# Altium schematic symbol library IPM_VFD.SchLib: 41 symbols
Pins are listed as number, name and electrical type; pins without a type are passive.

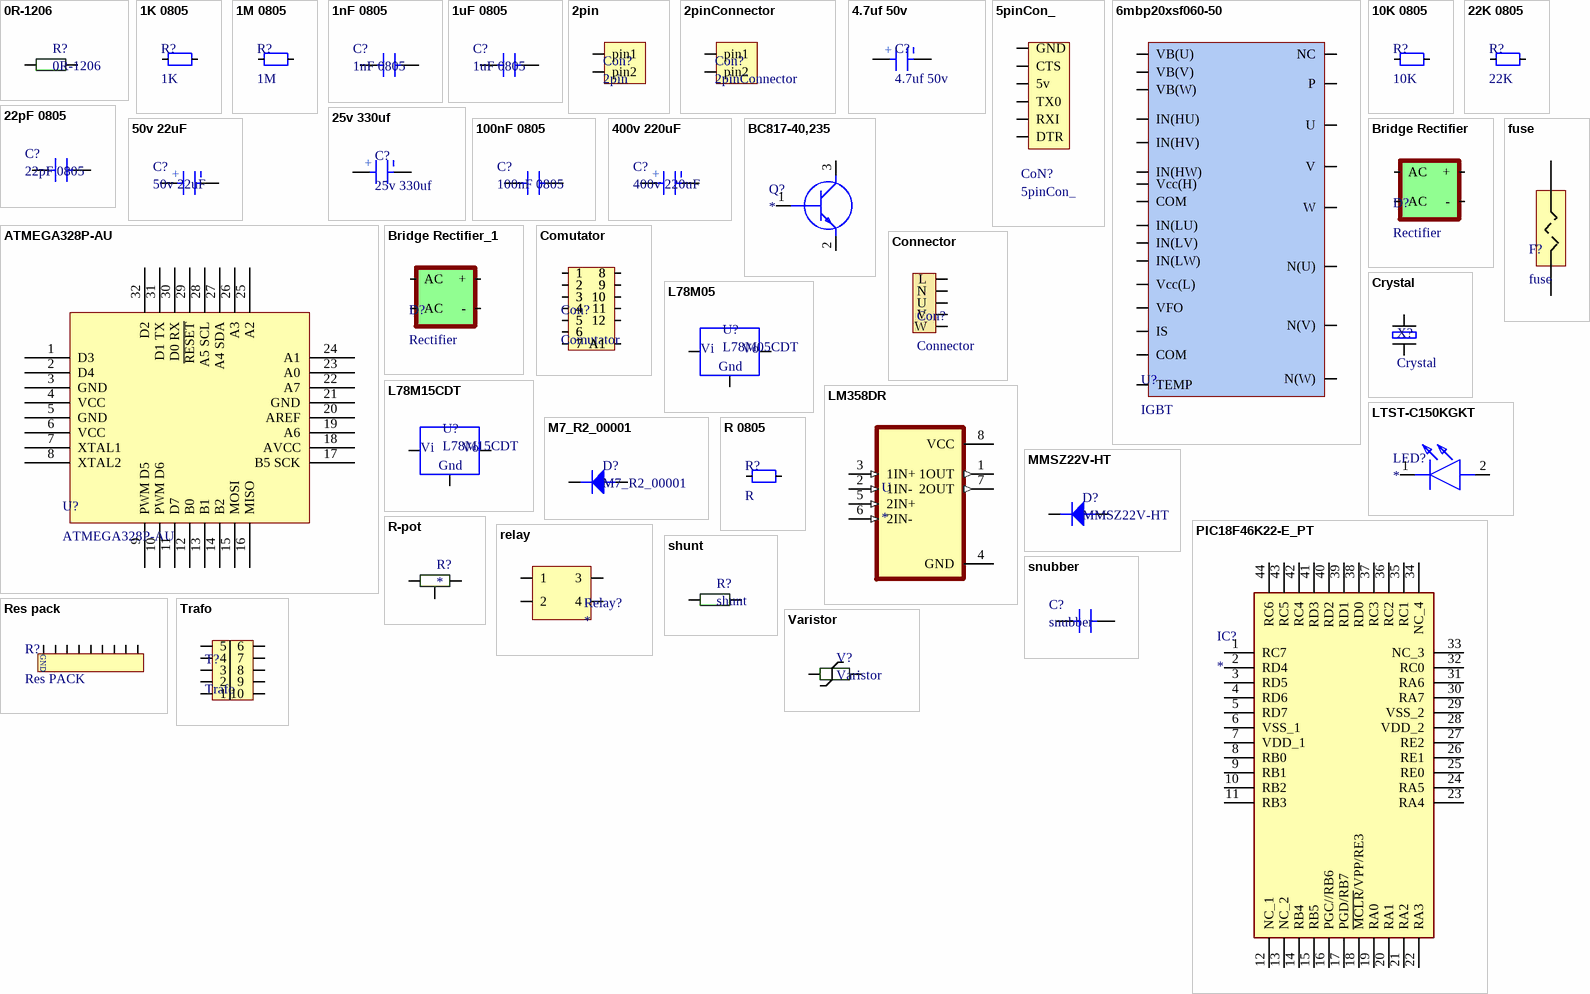
[diagram p0: symbols 0R-1206 to Varistor]

## 0R-1206
designator R?
Res1206
footprint R-1206
pins: 1, 2

## 1K 0805
designator R?, comment 1K
footprint R-0805R (resistor 0805 reflow soldering)
pins: 1, 2

## 1M 0805
designator R?, comment 1M
footprint R-0805R (resistor 0805 reflow soldering)
pins: 1, 2

## 1nF 0805
designator C?
Manufacturer: Nichicon; Manufacturer Part Number: LKS1J472MESZ; Voltage Rating: 63V; Tolerance: 20%; Ripple Current: 3A; Life (Hours): 1000Hour; Supplier 1: Mouser; RoHS: Yes; Mount: Through Hole; Case/Package: Radial; Min Operating Temperature: -40°C; Max Operating Temperature: 85°C; Package Quantity: 250; Packaging: Bulk; Voltage Rating (DC): 63V; Termination: Snap in; Diameter: 22mm; Length: 45mm; Lead Pitch: 0.394inch; Height - Seated (Max): 1.772inch; Supplier Part Number 1: 647-LKS1J472MESZ; ComponentLink1Description: Link; ComponentLink1URL: https://ozdisan.com/passive-components/capacitors/smt-smd-and-mlcc-capacitors/CL21B102KBANNNC
footprint C-0805R (capacitor 0805 reflow soldering)
pins: 1, 2

## 1uF 0805
designator C?
Manufacturer: Nichicon; Manufacturer Part Number: LKS1J472MESZ; Voltage Rating: 63V; Tolerance: 20%; Ripple Current: 3A; Life (Hours): 1000Hour; Supplier 1: Mouser; RoHS: Yes; Mount: Through Hole; Case/Package: Radial; Min Operating Temperature: -40°C; Max Operating Temperature: 85°C; Package Quantity: 250; Packaging: Bulk; Voltage Rating (DC): 63V; Termination: Snap in; Diameter: 22mm; Length: 45mm; Lead Pitch: 0.394inch; Height - Seated (Max): 1.772inch; Supplier Part Number 1: 647-LKS1J472MESZ
footprint C-0805R (capacitor 0805 reflow soldering)
pins: 1, 2

## 2pin
designator Con?
footprint Contactor
pins: 1 pin1, 2 pin2

## 2pinConnector
designator Con?
footprint 2pinCon
pins: 1 pin1, 2 pin2

## 4.7uf 50v
designator C?
footprint 4x5.3 cap
pins: 1, 2
text: +

## 5pinCon_
designator CoN?
footprint 5pinCon
pins: 1 DTR, 2 RXI, 3 TX0, 4 5v, 5 CTS, 6 GND

## 6mbp20xsf060-50
designator U?, comment IGBT
footprint 6MBP20XSF06050P
pins: 3 VB(U), 5 VB(V), 7 VB(W), 9 IN(HU), 10 IN(HV), 11 IN(HW), 12 Vcc(H), 13 COM, 14 IN(LU), 15 IN(LV), 16 IN(LW), 17 Vcc(L), 18 VFO, 19 IS, 20 COM, 21 TEMP, 22 N(W), 23 N(V), 24 N(U), 26 W, 28 V, 30 U, 32 P, 36 NC

## 10K 0805
designator R?, comment 10K
footprint R-0805R (resistor 0805 reflow soldering)
pins: 1, 2

## 22K 0805
designator R?, comment 22K
footprint R-0805R (resistor 0805 reflow soldering)
pins: 1, 2

## 22pF 0805
designator C?
Manufacturer: Nichicon; Manufacturer Part Number: LKS1J472MESZ; Voltage Rating: 63V; Tolerance: 20%; Ripple Current: 3A; Life (Hours): 1000Hour; Supplier 1: Mouser; RoHS: Yes; Mount: Through Hole; Case/Package: Radial; Min Operating Temperature: -40°C; Max Operating Temperature: 85°C; Package Quantity: 250; Packaging: Bulk; Voltage Rating (DC): 63V; Termination: Snap in; Diameter: 22mm; Length: 45mm; Lead Pitch: 0.394inch; Height - Seated (Max): 1.772inch; Supplier Part Number 1: 647-LKS1J472MESZ; ComponentLink1Description: Link; ComponentLink1URL: https://ozdisan.com/passive-components/capacitors/smt-smd-and-mlcc-capacitors/CL21C220JCANNNC
footprint C-0805R (capacitor 0805 reflow soldering)
pins: 1, 2

## 25v 330uf
designator C?
ComponentLink1Description: Link; ComponentLink1URL: https://ozdisan.com/passive-components/capacitors/aluminum-capacitors/BXJ25VC330MJ10TP
footprint 10*10 capacitor
pins: 1, 2
text: +

## 50v 22uF
designator C?
Manufacturer: Nichicon; Manufacturer Part Number: LKS1J472MESZ; Capacitance: 4.7mF; Voltage Rating: 63V; Tolerance: 20%; Ripple Current: 3A; Life (Hours): 1000Hour; Supplier 1: Mouser; RoHS: Yes; Mount: Through Hole; Case/Package: Radial; Min Operating Temperature: -40°C; Max Operating Temperature: 85°C; Package Quantity: 250; Packaging: Bulk; Voltage Rating (DC): 63V; Termination: Snap in; Diameter: 22mm; Length: 45mm; Lead Pitch: 0.394inch; Height - Seated (Max): 1.772inch; Supplier Part Number 1: 647-LKS1J472MESZ; ComponentLink3Description: Link; ComponentLink3URL: https://ozdisan.com/passive-components/capacitors/aluminum-capacitors/MRW-050V220ME057-TR
footprint 50v 22uf (Aluminum Electrolytic Capacitor, Body 6.70x6.70x6.30mm, IPC Low Density)
pins: 1, 2
text: +

## 100nF 0805
designator C?
Manufacturer: Nichicon; Manufacturer Part Number: LKS1J472MESZ; Voltage Rating: 63V; Tolerance: 20%; Ripple Current: 3A; Life (Hours): 1000Hour; Supplier 1: Mouser; RoHS: Yes; Mount: Through Hole; Case/Package: Radial; Min Operating Temperature: -40°C; Max Operating Temperature: 85°C; Package Quantity: 250; Packaging: Bulk; Voltage Rating (DC): 63V; Termination: Snap in; Diameter: 22mm; Length: 45mm; Lead Pitch: 0.394inch; Height - Seated (Max): 1.772inch; Supplier Part Number 1: 647-LKS1J472MESZ; ComponentLink2Description: Link; ComponentLink2URL: https://ozdisan.com/Product/Detail/342152/CL21F104ZBANNNC
footprint C-0805R (capacitor 0805 reflow soldering)
pins: 1, 2

## 400v 220uF
designator C?
Manufacturer: Nichicon; Manufacturer Part Number: LKS1J472MESZ; Capacitance: 4.7mF; Voltage Rating: 63V; Tolerance: 20%; Ripple Current: 3A; Life (Hours): 1000Hour; Supplier 1: Mouser; RoHS: Yes; Mount: Through Hole; Case/Package: Radial; Min Operating Temperature: -40°C; Max Operating Temperature: 85°C; Package Quantity: 250; Packaging: Bulk; Voltage Rating (DC): 63V; Termination: Snap in; Diameter: 22mm; Length: 45mm; Lead Pitch: 0.394inch; Height - Seated (Max): 1.772inch; Supplier Part Number 1: 647-LKS1J472MESZ; ComponentLink2Description: https://www.ozdisan.com/pasif-komponentler/kondansatorler/aluminyum-kondansatorler/PKL5-063V472MM450; ComponentLink2URL: https://www.ozdisan.com/pasif-komponentler/kondansatorler/aluminyum-kondansatorler/PKL5-063V472MM450
footprint 400 220Uf
pins: 1, 2
text: +

## ATMEGA328P-AU
designator U?
Microchip Technology ATMEGA328P-AN, 8bit AVR Microcontroller, 20MHz, 32 kB Flash, 32-Pin TQFP
footprint TQFP80P900X900X120-32N (TQFP, 32-Leads, Body 7.00x7.00mm, Pitch 0.80mm, IPC Medium Density)
pins: 1 D3, 2 D4, 3 GND, 4 VCC, 5 GND, 6 VCC, 7 XTAL1, 8 XTAL2, 9 PWM D5, 10 PWM D6, 11 D7, 12 B0, 13 B1, 14 B2, 15 MOSI, 16 MISO, 17 B5 SCK, 18 AVCC, 19 A6, 20 AREF, 21 GND, 22 A7, 23 A0, 24 A1, 25 A2, 26 A3, 27 A4 SDA, 28 A5 SCL, 29 ~{RESET}, 30 D0 RX, 31 D1 TX, 32 D2

## BC817-40,235
designator Q?
Transistor BJT NPN; Manufacturer_Name: Nexperia; Manufacturer_Part_Number: BC817-40,235; Datasheet Link: http://assets.nexperia.com/documents/data-sheet/BC817_BC817W_BC337.pdf; Height: 1.1mm; Mouser Part Number: 771-BC817-40235; Mouser Price/Stock: https://www.mouser.com/Search/Refine.aspx?Keyword=771-BC817-40235; RS Part Number: 1707957; RS Price/Stock: http://uk.rs-online.com/web/p/products/1707957
footprint SOT95P230X110-3N
pins: 1 B, 2 E, 3 C

## Bridge Rectifier
designator D?, comment Rectifier
footprint Bridge Rectifier
pins: 1 AC, 2 +, 3 -, 4 AC

## Bridge Rectifier_1
designator D?, comment Rectifier
ComponentLink1Description: Link; ComponentLink1URL: https://ozdisan.com/power-semiconductors/diodes-diode-modules-and-rectifiers/bridge-diodes/DF10S-HT
footprint bridge
pins: 1 +, 2 -, 3 AC, 4 AC

## Comutator
designator Con?
footprint comutator
pins: 1, 1, 2, 2, 3, 3, 4, 4, 5, 5, 6, 6, 7, 7, 8, 8, 9, 9, 10, 10, 11, 11, 12, 12, A1, A1

## Connector
designator Con?
footprint Connector
pins: 1 L, 2 N, 3 U, 4 V, 5 W

## Crystal
designator X?
AS49SD-16M-FC160F3-TR
footprint crystal
pins: 1, 2

## fuse
designator F?
footprint fuse holder
pins: 1, 2

## L78M05
designator U?, comment L78M05CDT
Manufacturer: STMicroelectronics; Manufacturer Part Number: L78M15CDT; Max Output Current: 500mA; Output Voltage: 15V; Number of Outputs: 1; Max Input Voltage: 35V; Polarity: Positive; Quiescent Current: 6mA; Output Type: Fixed; Dropout Voltage: 2V; Supplier 1: Avnet; RoHS: Yes; Mount: Surface Mount; Case/Package: DPAK; Number of Pins: 3; Min Operating Temperature: 0°C; Max Operating Temperature: 150°C; Packaging: Rail/Tube; Output Current: 500mA; Min Input Voltage: 35V; Package Quantity: 75; Length: 6.6mm; Height: 2.4mm; Width: 6.2mm; Radiation Hardening: No; Supplier Part Number 1: L78M15CDT; ComponentLink1Description: Link; ComponentLink1URL: https://ozdisan.com/integrated-circuits-ics/power-management-ics/linear-voltage-regulators/MC7805BDTRKG
footprint TO-252
pins: 1, 2, 3
text: Vi; Vo; Gnd

## L78M15CDT
designator U?
Manufacturer: STMicroelectronics; Max Output Current: 500mA; Output Voltage: 15V; Number of Outputs: 1; Max Input Voltage: 35V; Polarity: Positive; Quiescent Current: 6mA; Output Type: Fixed; Dropout Voltage: 2V; Supplier 1: Avnet; Manufacturer Part Number: L78M15CDT; RoHS: Yes; Mount: Surface Mount; Case/Package: DPAK; Number of Pins: 3; Min Operating Temperature: 0°C; Max Operating Temperature: 150°C; Packaging: Rail/Tube; Output Current: 500mA; Min Input Voltage: 35V; Package Quantity: 75; Length: 6.6mm; Height: 2.4mm; Width: 6.2mm; Radiation Hardening: No; Supplier Part Number 1: L78M15CDT; ComponentLink1Description: link; ComponentLink1URL: https://karakoyelektronik.com/regulator/ua78m15-21734
footprint TO-252
pins: 1, 2, 3
text: Vi; Vo; Gnd

## LM358DR
designator U
Dual standard operational amplifier 8-SOIC 0 to 70; MP: LM358DR; MF: Texas Instruments; Availability: Good; Mouser-Purchase-URL: https://snapeda.com/shop?store=Mouser&id=231187; SnapEDA_Link: https://www.snapeda.com/parts/LM358DR/Texas%20Instruments/view-part/231187/?ref=snap; Price: None; Value: *; Texas_Instruments-Purchase-URL: https://snapeda.com/shop?store=Texas+Instruments&id=231187; Package: SOIC-8 Texas Instruments; DigiKey-Purchase-URL: https://snapeda.com/shop?store=DigiKey&id=231187; ComponentLink1Description: Link; ComponentLink1URL: https://ozdisan.com/Product/Detail/13257/LM358DR
footprint SOIC127P599X175-8N
pins: 1 1OUT (out), 2 1IN- (in), 3 1IN+ (in), 4 GND (power), 5 2IN+ (in), 6 2IN- (in), 7 2OUT (out), 8 VCC (power)

## LTST-C150KGKT
designator LED?
LED; Manufacturer_Name: Lite-On; Manufacturer_Part_Number: LTST-C150KGKT; Datasheet Link: http://optoelectronics.liteon.com/upload/download/ds22-2000-072/ltst-c150kgkt.pdf; Height: 1.2mm; Mouser Part Number: 859-LTST-C150KGKT; Mouser Price/Stock: https://www.mouser.com/Search/Refine.aspx?Keyword=859-LTST-C150KGKT; RS Part Number: 6920871; RS Price/Stock: https://uk.rs-online.com/web/p/products/6920871
footprint led
pins: 1 K, 2 A

## M7_R2_00001
designator D?
ComponentLink1Description: Link; ComponentLink1URL: https://ozdisan.com/power-semiconductors/diodes-diode-modules-and-rectifiers/general-purpose-diodes/M7R200001
footprint DO-214AC
pins: a, k

## MMSZ22V-HT
designator D?
ComponentLink1Description: Link; ComponentLink1URL: https://ozdisan.com/power-semiconductors/diodes-diode-modules-and-rectifiers/zener-diodes/MMSZ22V-HT
footprint SOD123
footprint SOD123
pins: a, k

## PIC18F46K22-E_PT
designator IC?
Integrated Circuit; Manufacturer_Name: Microchip; Manufacturer_Part_Number: PIC18F46K22-E/PT; Datasheet Link: https://componentsearchengine.com/Datasheets/1/PIC18F46K22-E_PT.pdf; Height: 1.2mm; Mouser Part Number: 579-PIC18F46K22EPT; Mouser Price/Stock: https://www.mouser.co.uk/ProductDetail/Microchip-Technology/PIC18F46K22-E-PT/?qs=RXaOwepKlZ1VZ48%252B%252BLjZBQ%3D%3D; Arrow Part Number: PIC18F46K22-E/PT; Arrow Price/Stock: https://www.arrow.com/en/products/pic18f46k22-ept/microchip-technology
footprint QFP80P1200X1200X120-44N
pins: 1 RC7, 2 RD4, 3 RD5, 4 RD6, 5 RD7, 6 VSS_1, 7 VDD_1, 8 RB0, 9 RB1, 10 RB2, 11 RB3, 12 NC_1, 13 NC_2, 14 RB4, 15 RB5, 16 PGC//RB6, 17 PGD/RB7, 18 ~{MCLR}/VPP/RE3, 19 RA0, 20 RA1, 21 RA2, 22 RA3, 23 RA4, 24 RA5, 25 RE0, 26 RE1, 27 RE2, 28 VDD_2, 29 VSS_2, 30 RA7, 31 RA6, 32 RC0, 33 NC_3, 34 NC_4, 35 RC1, 36 RC2, 37 RC3, 38 RD0, 39 RD1, 40 RD2, 41 RD3, 42 RC4, 43 RC5, 44 RC6

## R 0805
designator R?, comment R
footprint R-0805R (resistor 0805 reflow soldering)
pins: 1, 2

## R-pot
designator R?
Res1206
footprint pot
pins: 1, 2, 3

## relay
designator Relay?
footprint Relay
pins: 1, 2, 3, 4

## Res pack
designator R?, comment Res PACK
footprint resistor Pack
pins: 1 GND, 2, 3, 4, 5, 6, 7, 8, 9

## shunt
designator R?
Res1206
footprint shunt
pins: 1, 2

## snubber
designator C?
Manufacturer: Nichicon; Manufacturer Part Number: LKS1J472MESZ; Voltage Rating: 63V; Tolerance: 20%; Ripple Current: 3A; Life (Hours): 1000Hour; Supplier 1: Mouser; RoHS: Yes; Mount: Through Hole; Case/Package: Radial; Min Operating Temperature: -40°C; Max Operating Temperature: 85°C; Package Quantity: 250; Packaging: Bulk; Voltage Rating (DC): 63V; Termination: Snap in; Diameter: 22mm; Length: 45mm; Lead Pitch: 0.394inch; Height - Seated (Max): 1.772inch; Supplier Part Number 1: 647-LKS1J472MESZ
footprint snubber
pins: 1, 2

## Trafo
designator T?
footprint trafo
pins: 1, 2, 3, 4, 5, 6, 7, 8, 9, 10

## Varistor
designator V?
ComponentLink1Description: Link; ComponentLink1URL: https://ozdisan.com/power-semiconductors/circuit-protection-components/varistors/TVR10391KSY
footprint varistor
pins: 1, 2

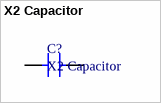
[diagram p1: symbol X2 Capacitor]

## X2 Capacitor
designator C?
ComponentLink1Description: Link; ComponentLink1URL: https://ozdisan.com/passive-components/capacitors/film-capacitors/W42Q3104KK6SD1A0W1
footprint x2 capacitor
pins: 1, 2